# Altium schematic symbol library 原理图库.SCHLIB: 18 symbols
Pins are listed as number, name and electrical type; pins without a type are passive.

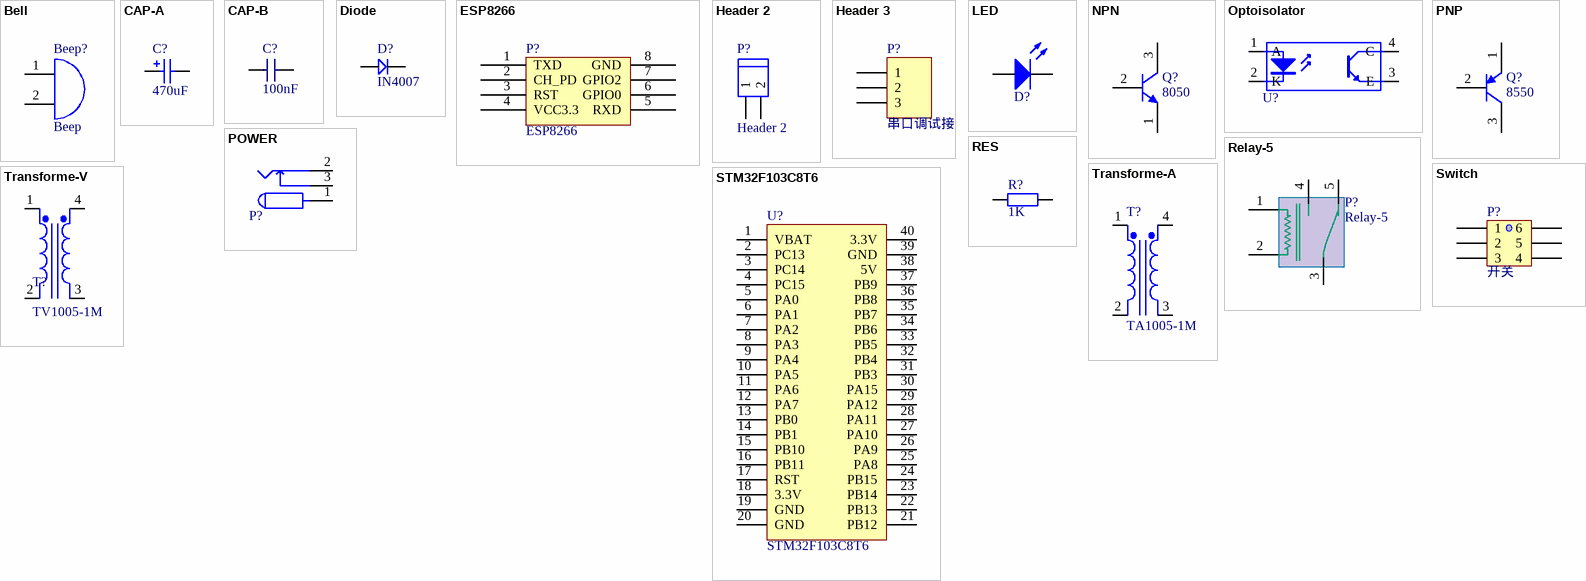
[diagram p0: symbols Bell to Transforme-V]

## Bell
designator Beep?, comment Beep
蜂鸣器
footprint Bell
pins: 1 A, 2 B

## CAP-A
designator C?  value 470uF  (hidden comment: CAP-A)
电解电容
footprint Cap
pins: 1, 2

## CAP-B
designator C?  value 100nF  (hidden comment: CAP-B)
瓷片电容
footprint Cap
pins: 1, 2

## Diode
designator D?  value IN4007  (hidden comment: Diode)
整流二极管
footprint Diode
pins: 1, 2

## ESP8266
designator P?
WIFI模块（8针）
footprint ESP8266
pins: 1 TXD, 2 CH_PD, 3 RST, 4 VCC3.3, 5 RXD, 6 GPIO0, 7 GPIO2, 8 GND

## Header 2
designator P?
两孔端子
footprint HDR1X2 (Connector; Header; 3 Position)
pins: 1, 2

## Header 3
designator P?, comment 串口调试接口
三孔排针; LatestRevisionDate: 17-Jul-2002; LatestRevisionNote: Re-released for DXP Platform.; Publisher: Altium Limited
footprint HDR1X3 (Connector; Header; 3 Position)
pins: 1, 2, 3

## LED
designator D?  (value not drawn)
footprint LED
pins: 1 A, 2 K

## NPN
designator Q?  value 8050  (hidden comment: NPN)
footprint Triode
pins: 1 2, 2 B, 3 C

## Optoisolator
designator U?  (value not drawn)
光耦隔离器
footprint DIP-4
pins: 1 A "Anode", 2 K "Cathode", 3 E "Emitter", 4 C "Collector"

## PNP
designator Q?  value 8550  (hidden comment: PNP)
footprint Triode
pins: 1 E, 2 B, 3 C

## POWER
designator P?, comment 电源插座  (value not drawn)
DC电源插口
footprint DC
pins: 1, 2, 3

## Relay-5
designator P?
5针继电器
footprint Relay
pins: 1, 2, 3, 4, 5

## RES
designator R?  value 1K  (hidden comment: RES)
电阻
footprint RES
pins: 1, 2

## STM32F103C8T6
designator U?
STM32最小系统（40针）
footprint STM32F103C8T6
pins: 1 VBAT, 2 PC13, 3 PC14, 4 PC15, 5 PA0, 6 PA1, 7 PA2, 8 PA3, 9 PA4, 10 PA5, 11 PA6, 12 PA7, 13 PB0, 14 PB1, 15 PB10, 16 PB11, 17 RST, 18 3.3V, 19 GND, 20 GND, 21 PB12, 22 PB13, 23 PB14, 24 PB15, 25 PA8, 26 PA9, 27 PA10, 28 PA11, 29 PA12, 30 PA15, 31 PB3, 32 PB4, 33 PB5, 34 PB6, 35 PB7, 36 PB8, 37 PB9, 38 5V, 39 GND, 40 3.3V

## Switch
designator P?, comment 开关
footprint Switch
pins: 1, 2, 3, 4, 5, 6

## Transforme-A
designator T?, comment TA1005-1M
电流互感器
footprint Transforme
pins: 1 Pri+, 2 Pri-, 3 Sec-, 4 Sec+

## Transforme-V
designator T?, comment TV1005-1M
电压互感器
footprint Transforme
pins: 1 Pri+, 2 Pri-, 3 Sec-, 4 Sec+